# EAGLE library part LAYOUT-POWER-BOARD (library launch-tower)
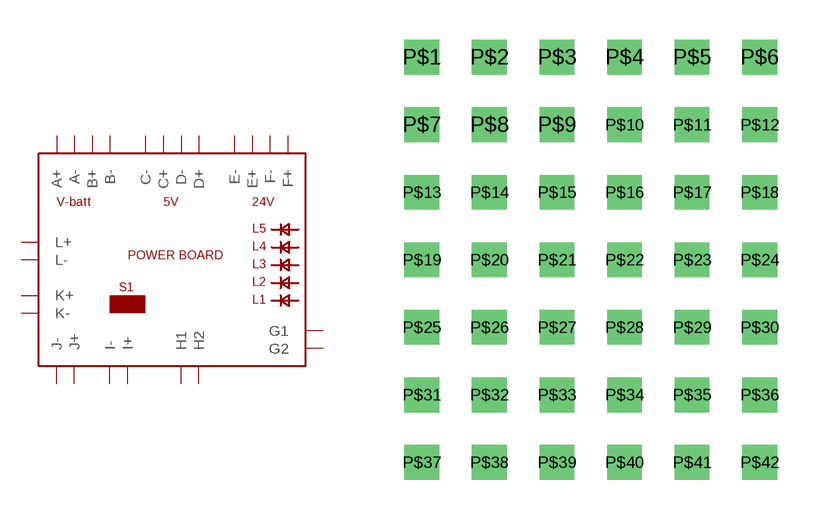
[diagram p2: symbol with the pads of LAYOUT-PACKAGE; footprint LAYOUT-PACKAGE]

Designator prefix -

## LAYOUT-POWER-BOARD  [LAYOUT-PACKAGE]
P$1  A+
P$2  A-
P$3  B+
P$4  B-
P$5  C-
P$6  C+
P$7  D-
P$8  D+
P$9  E-
P$10  E+
P$11  F-
P$12  F+
P$13  L+
P$14  L-
P$15  K+
P$16  K-
P$17  J-
P$18  J+
P$19  I-
P$20  I+
P$21  H1
P$22  H2
P$23  G1
P$24  G2

## Footprint LAYOUT-PACKAGE (pad centres in mm)
drill 0.8 square: P$1 -11.43,3.81; P$2 -8.89,3.81; P$3 -6.35,3.81; P$4 -3.81,3.81; P$5 -1.27,3.81; P$6 1.27,3.81; P$7 -11.43,1.27; P$8 -8.89,1.27; P$9 -6.35,1.27; P$10 -3.81,1.27; P$11 -1.27,1.27; P$12 1.27,1.27; P$13 -11.43,-1.27; P$14 -8.89,-1.27; P$15 -6.35,-1.27; P$16 -3.81,-1.27; P$17 -1.27,-1.27; P$18 1.27,-1.27; P$19 -11.43,-3.81; P$20 -8.89,-3.81; P$21 -6.35,-3.81; P$22 -3.81,-3.81; P$23 -1.27,-3.81; P$24 1.27,-3.81; P$25 -11.43,-6.35; P$26 -8.89,-6.35; P$27 -6.35,-6.35; P$28 -3.81,-6.35; P$29 -1.27,-6.35; P$30 1.27,-6.35; P$31 -11.43,-8.89; P$32 -8.89,-8.89; P$33 -6.35,-8.89; P$34 -3.81,-8.89; P$35 -1.27,-8.89; P$36 1.27,-8.89; P$37 -11.43,-11.43; P$38 -8.89,-11.43; P$39 -6.35,-11.43; P$40 -3.81,-11.43; P$41 -1.27,-11.43; P$42 1.27,-11.43